# Altium footprint library Voltage_Regulator.PcbLib: 1 footprints
Each footprint in its own frame and in the unit in brackets; x right, y up, seen from the top. Pads: shape width x height; smd on the part's side, far side on the other; paste and mask are expansions set on the pad; w line width, h text height; cw(c..) or ccw(c..) is an arc to the next point about the centre after c.
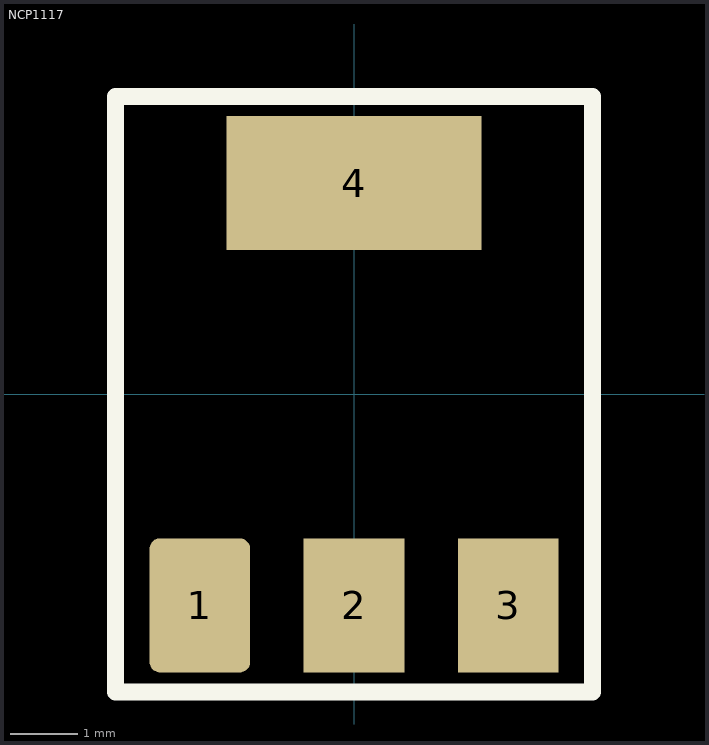
[diagram p0: the footprint, top view; thin cyan lines are the x and y axes]

## NCP1117 [mm] "IC REG LINEAR 3.3V 1A SOT-223"
pads (4):
  rrect20% 1.5x2 smd mask+0.05: 1(-2.3,-3.15)
  rect 1.5x2 smd mask+0.05: 2(0,-3.15) 3(2.3,-3.15)
  rect 3.8x2 smd mask+0.05: 4(0,3.15)
Top Overlay:
  lines w0.254: -3.556,-4.445 3.556,-4.445 3.556,4.445 -3.556,4.445 -3.556,-4.445
Mechanical 1:
  text ".Designator" at 0.1,0.323 h0.67
3D body "SOT223-3_ONS.step": height 1.73, standoff 0, extent -3.34,-3.645 3.34,3.645